# EAGLE library part WE-RJ45_7498010210A (library WE-RJ45_LAN)
WE-RJ45 LAN Transformer Characteristics RJ45 Connector with integrated transformer / common mode choke Power over Ethernet up to 50 Watt and speeds up to 10 Gbit/s Available in SMD, THT and THT with USB Compliant with standards: IEEE 802.3u, IEEE 802.3ab, IEEE 802.3af, IEEE 802.3at, IEEE 802.3an and upcoming IEE 802.3bt Applications Suitable for industrial temperatures from –40 °C up to +85 °C Compatible to Industrial Ethernet systems like EtherCAT or Profinet Compliant with most IC’s for Ethernet applications such as Microchip, Texas Instruments, Broadcom, Linear Technology Hubs, Routers, Switches, IP cameras, IoT applications <https://www.we-online.com/components/media/o35731v209%20Family-WE-RJ45LAN-7499xxxxxx.jpg> Details see: www.we-online.com/components/products/WE-LAN-RJ45 <www.we-online.com/catalog/WE-LAN-RJ45/?utm_source=eagle_model&utm_medium=description_link&utm_campaign=eisos_eagle> Updated by Ella Wu 2019-08-05 2019 (C) Wurth Elektronik
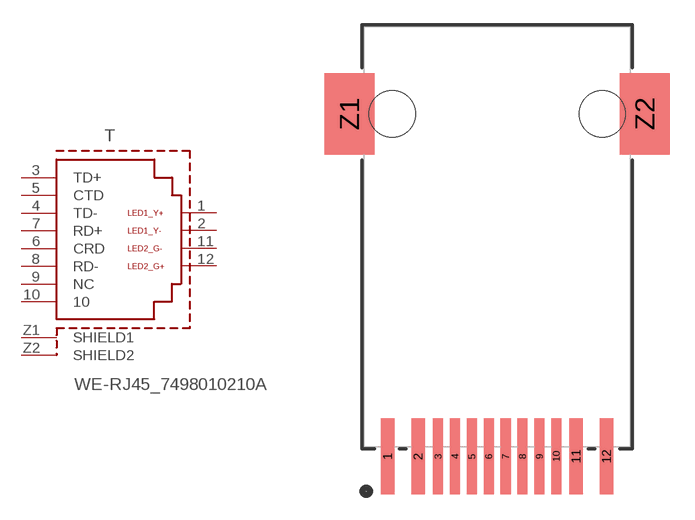
[diagram p50: symbol with the pads of 7498010210A; footprint 7498010210A]

Designator prefix T

## WE-RJ45_7498010210A (DATA-RATE: 10/100BASE-T; DATASHEET-URL: https://www.we-online.com/redexpert/spec/7498010210A?ae; IMPROVED-CMRR: No; LED: green-yellow; MOUNT: SMT; OPERATING-TEMPERATURE: -40 °C up to +85 °C; PART-NUMBER: 7498010210A; PHY-CHIP-MODE: current & voltage; POE: non-PoE; PORTS: 1; SHIELD-TABS: Yes; TAB: Up; USB: No; VALUE: 7498010210A)  [7498010210A]
1  LED1_Y+  pas
2  LED1_Y-  pas
3  TD+  pas
4  TD-  pas
5  CTD  pas
6  CRD  pas
7  RD+  pas
8  RD-  pas
9  NC  pas
10  10  pas
11  LED2_G-  pas
12  LED2_G+  pas
Z1  SHIELD1  pas
Z2  SHIELD2  pas

## Footprint 7498010210A (pad centres in mm)
WE-RJ45 LAN Transformer 10/100 Base-T
smd 0.81 x 4.6: 1 -6.61,-20.69; 2 -4.77,-20.69; 11 4.77,-20.69; 12 6.61,-20.69
smd 0.61 x 4.6: 3 -3.57,-20.69; 4 -2.55,-20.69; 5 -1.53,-20.69; 6 -0.51,-20.69; 7 0.51,-20.69; 8 1.53,-20.69; 9 2.55,-20.69; 10 3.57,-20.69
smd 3 x 4.9: Z1 -8.92,0; Z2 8.92,0
hole 2.8 at -6.35,0
hole 2.8 at 6.35,0